# Altium footprint library Footprint.PcbLib: 105 footprints (part 3 of 7)
Each footprint in its own frame and in the unit in brackets; x right, y up, seen from the top. Pads: shape width x height; smd on the part's side, far side on the other; paste and mask are expansions set on the pad; w line width, h text height; cw(c..) or ccw(c..) is an arc to the next point about the centre after c.
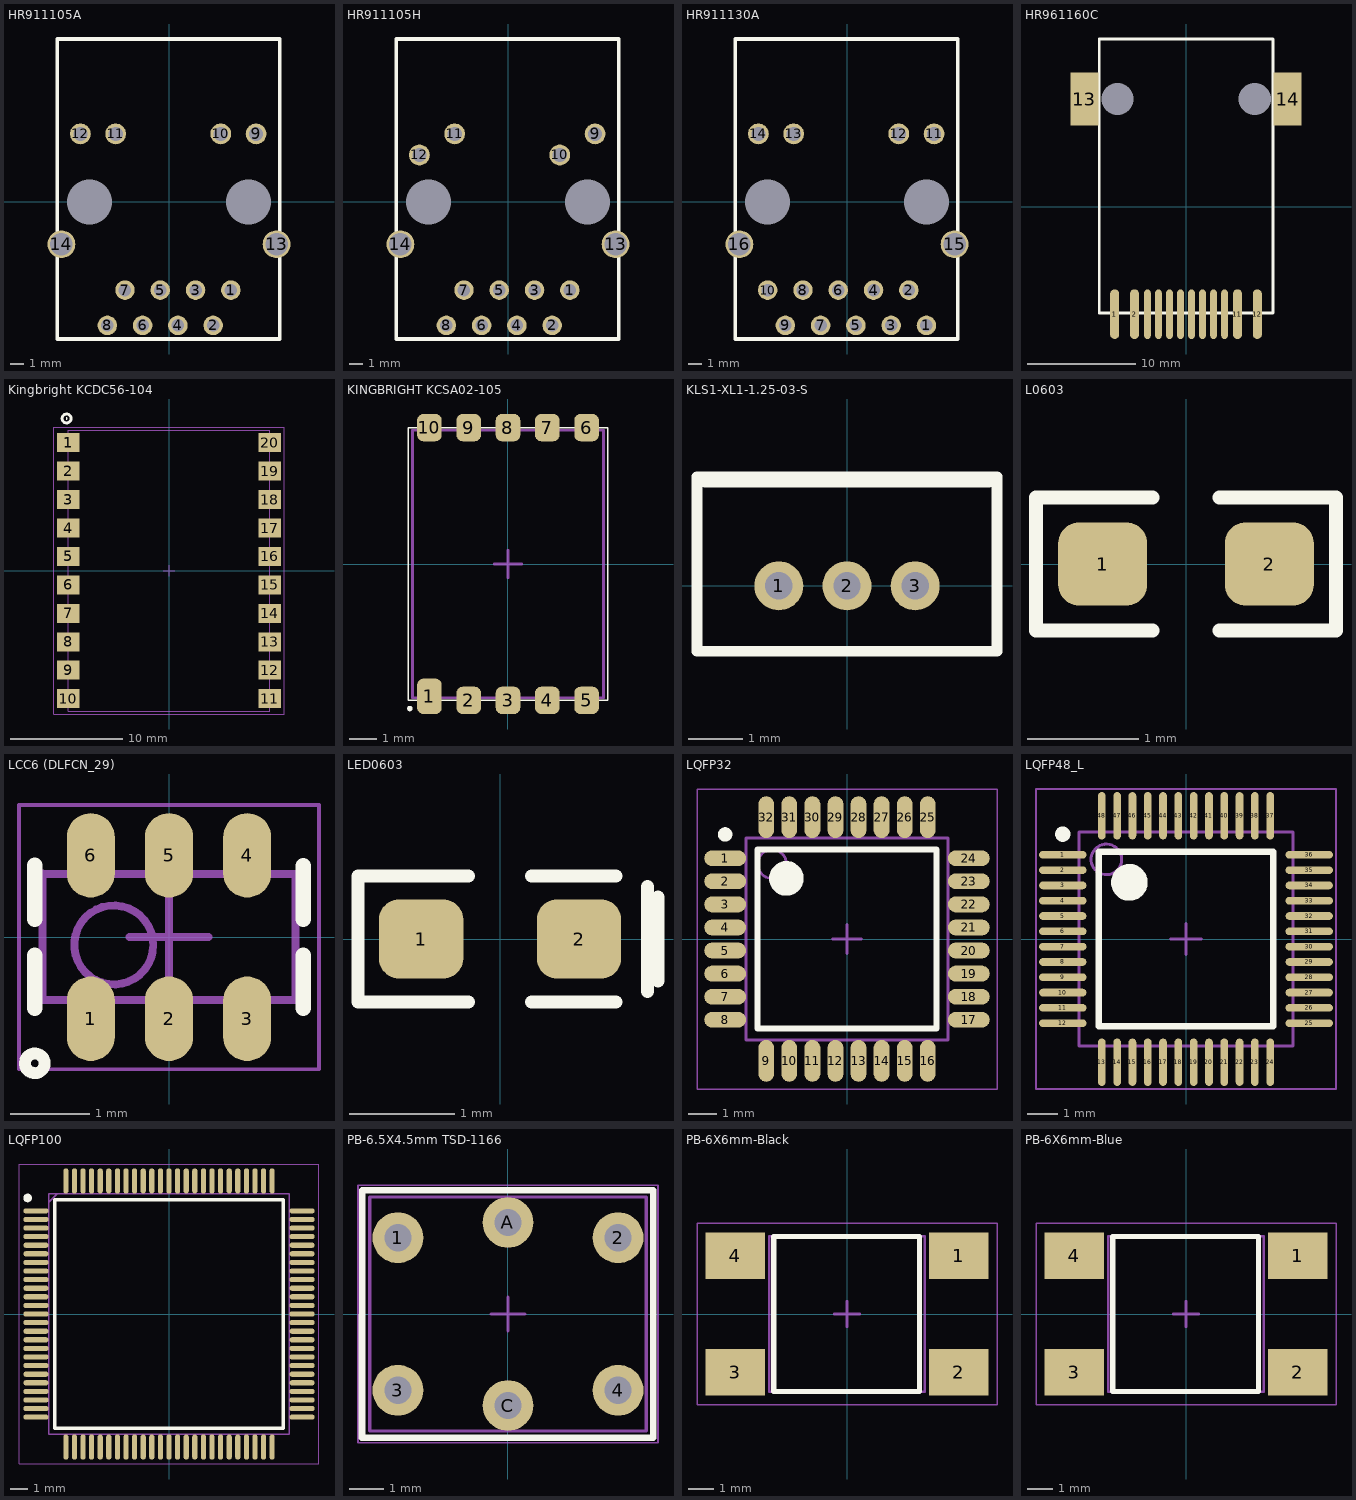
[diagram p2: the footprints below, top view; thin cyan lines are the x and y axes]

## HR911105A [mm]
pads (16):
  round 1.4 hole 0.9: 1(4.45,-6.35) 2(3.18,-8.89) 3(1.91,-6.35) 4(0.64,-8.89) 5(-0.63,-6.35) 6(-1.9,-8.89) 7(-3.17,-6.35) 8(-4.44,-8.89)
  round 1.5 hole 1.02: 9(6.27,4.9) 10(3.73,4.9) 11(-3.84,4.9) 12(-6.38,4.9)
  round 2 hole 1.63: 13(7.745,-3.05) 14(-7.745,-3.05)
  round 0 hole 3.25 unplated: ""(-5.715,0) ""(5.715,0)
Top Overlay:
  lines w0.254: -8.042,-9.87 -8.042,11.73 7.958,11.73 7.958,-9.87 -8.042,-9.87
3D body: height 0, standoff 0, extent -8.042,-9.869 7.957,11.729

## HR911105H [mm]
pads (16):
  round 1.4 hole 0.9: 1(4.45,-6.35) 2(3.18,-8.89) 3(1.91,-6.35) 4(0.64,-8.89) 5(-0.63,-6.35) 6(-1.9,-8.89) 7(-3.17,-6.35) 8(-4.44,-8.89)
  round 1.5 hole 1.02: 9(6.27,4.9) 10(3.73,3.38) 11(-3.84,4.9) 12(-6.38,3.38)
  round 2 hole 1.63: 13(7.745,-3.05) 14(-7.745,-3.05)
  round 0 hole 3.25 unplated: ""(-5.715,0) ""(5.715,0)
Top Overlay:
  lines w0.254: -8.042,-9.87 7.958,-9.87 7.958,11.73 -8.042,11.73 -8.042,-9.87
3D body: height 0, standoff 0, extent -8.042,-9.869 7.957,11.729

## HR911130A [mm]
pads (18):
  round 1.4 hole 0.9: 1(5.72,-8.89) 2(4.45,-6.35) 3(3.18,-8.89) 4(1.91,-6.35) 5(0.64,-8.89) 6(-0.63,-6.35) 7(-1.9,-8.89) 8(-3.17,-6.35) 9(-4.44,-8.89) 10(-5.71,-6.35)
  round 1.5 hole 1.02: 11(6.27,4.9) 12(3.73,4.9) 13(-3.84,4.9) 14(-6.38,4.9)
  round 2 hole 1.63: 15(7.745,-3.05) 16(-7.745,-3.05)
  round 0 hole 3.25 unplated: ""(-5.715,0) ""(5.715,0)
Top Overlay:
  lines w0.254: -8.042,-9.87 7.958,-9.87 7.958,11.73 -8.042,11.73 -8.042,-9.87
3D body: height 0, standoff 0, extent -8.042,-9.869 7.957,11.729

## HR961160C [mm]
pads (16):
  oval 0.84x4.6 all layers, no hole: 1(-6.61,-9.97) 2(-4.77,-9.97) 11(4.77,-9.97) 12(6.61,-9.97)
  oval 0.61x4.6 all layers, no hole: 3(-3.57,-9.97) 4(-2.55,-9.97) 5(-1.53,-9.97) 6(-0.51,-9.97) 7(0.51,-9.97) 8(1.53,-9.97) 9(2.55,-9.97) 10(3.57,-9.97)
  round 0 hole 3 unplated: 11(-6.342,9.97) 12(6.358,9.97)
  rect 2.6x4.9 all layers, no hole: 13(-9.42,9.97) 14(9.42,9.97)
Top Overlay:
  lines w0.254: -8.042,-9.87 8.058,-9.87 8.058,15.53 -8.042,15.53 -8.042,-9.87

## Kingbright KCDC56-104 [mm] "Chip Array, Flat, 20-Leads, Pitch 2,54mm,  Body 25,10x19,00mm,  IPC Medium Density"
height 3.75
pads (20):
  rect 2x1.7 smd: 1(-9,11.43) 2(-9,8.89) 3(-9,6.35) 4(-9,3.81) 5(-9,1.27) 6(-9,-1.27) 7(-9,-3.81) 8(-9,-6.35) 9(-9,-8.89) 10(-9,-11.43) 11(9,-11.43) 12(9,-8.89) 13(9,-6.35) 14(9,-3.81) 15(9,-1.27) 16(9,1.27) 17(9,3.81) 18(9,6.35) 19(9,8.89) 20(9,11.43)
Top Overlay:
  circle w0.1: c-9.144,13.589 r0.05
  circle w0.254: c-9.144,13.589 r0.402
Mechanical 13:
  lines w0.1: -9,-12.55 9,-12.55 9,12.55 -9,12.55 -9,-12.55
Mechanical 15:
  lines w0.05: -10.27,-12.8 10.27,-12.8 10.27,12.8 -10.27,12.8 -10.27,-12.8
  lines w0.1: -0.5,0 0.5,0 ; 0,-0.5 0,0.5
3D body: height 3.75, standoff 0, extent -9.5,-12.55 9.5,12.55

## KINGBRIGHT KCSA02-105 [mm] "Chip Array, Flat, 10-Leads, Pitch 1,44mm,  Body 10,00x6,90mm,  IPC Medium Density"
height 3
pads (10):
  rrect50% 0.9x1.3 smd: 1(-2.88,-4.85)
  rrect50% 0.9x1 smd: 2(-1.44,-5) 3(0,-5) 4(1.44,-5) 5(2.88,-5) 6(2.88,5) 7(1.44,5) 8(0,5) 9(-1.44,5) 10(-2.88,5)
Top Overlay:
  circle w0.1: c-3.6,-5.3 r0.05
  lines w0.05: -3.65,-5 3.65,-5 3.65,5 -3.65,5 -3.65,-5
Mechanical 13:
  lines w0.1: -3.5,-4.9 -3.5,4.9 3.5,4.9 3.5,-4.9 -3.5,-4.9
Mechanical 15:
  lines w0.1: -0.5,0 0.5,0 ; 0,-0.5 0,0.5
3D body: height 3, standoff 0, extent -3.5,-4.9 3.5,4.9

## KLS1-XL1-1.25-03-S [mm]
pads (3):
  round 0.9 hole 0.5: 1(-1.25,0) 2(0,0) 3(1.25,0)
Top Overlay:
  lines w0.2: -2.6,1.9 2.6,1.9 ; -2.75,-1.2 2.75,-1.2 2.75,2 -2.75,2 -2.75,-1.2

## L0603 [mm]
pads (2):
  rrect50% 0.8x0.75 smd: 1(-0.75,0) 2(0.75,0)
Top Overlay:
  lines w0.125: -0.3,-0.6 -1.35,-0.6 ; -0.3,0.6 -1.35,0.6 ; 0.3,-0.6 1.35,-0.6 1.35,0.6 0.3,0.6 ; -1.35,-0.6 -1.35,0.6 ; -1.35,-0.6 -1.35,-0.6 ; -1.35,0.6 -1.35,0.6
3D body "C-0603.STEP": height 0.3, standoff 0, extent -0.8,-0.4 0.8,0.4

## LCC6 (DLFCN_29) [mm] "LCC, 6-Pins, Body 3.20x1.60mmx0.89mm, Pitch 0.99mm, IPC Medium Density"
height 0.89
pads (6):
  oval 0.61x1.07 smd: 1(-0.99,-1.035) 2(0,-1.035) 3(0.99,-1.035) 4(0.99,1.035) 5(0,1.035) 6(-0.99,1.035)
Top Overlay:
  circle w0.15: c-1.7,-1.6 r0.125
  lines w0.2: -1.7,-0.9 -1.7,-0.23 ; -1.7,0.23 -1.7,0.908 ; 1.7,-0.9 1.7,-0.23 ; 1.7,0.23 1.7,0.9
Mechanical 13:
  circle w0.1: c-0.7,-0.1 r0.5
  lines w0.1: -1.608,0.8 1.6,0.8 1.6,-0.8 -1.6,-0.8 -1.6,0.808
Mechanical 15:
  lines w0.05: -1.9,-1.675 -1.9,1.675 1.9,1.675 1.9,-1.675 -1.9,-1.675
  lines w0.1: -0.5,0 0.5,0 ; 0,-0.5 0,0.5
3D body: height 0.89, standoff 0, extent -1.608,-0.8 1.6,0.808

## LED0603 [mm]
pads (2):
  rrect50% 0.8x0.75 smd: 1(-0.75,0) 2(0.75,0)
Top Overlay:
  lines w0.125: -0.3,-0.6 -1.35,-0.6 -1.35,0.6 -0.3,0.6 ; 0.3,-0.6 1.1,-0.6 ; 0.3,0.6 1.1,0.6 ; 1.4,-0.5 1.4,0.5 ; 1.5,-0.4 1.5,0.4 ; 1.1,-0.6 1.1,-0.6 ; 1.1,0.6 1.1,0.6
3D body "C-0603.STEP": height 0.3, standoff 0, extent -0.8,-0.4 0.8,0.4

## LQFP32 [mm] "LQFP, 32-Leads, Body 7,00x7,00mm, Pitch 0,80mm, IPC Medium Density"
height 1.6
pads (32):
  oval 1.45x0.55 smd: 1(-4.225,2.8) 2(-4.225,2) 3(-4.225,1.2) 4(-4.225,0.4) 5(-4.225,-0.4) 6(-4.225,-1.2) 7(-4.225,-2) 8(-4.225,-2.8) 17(4.225,-2.8) 18(4.225,-2) 19(4.225,-1.2) 20(4.225,-0.4) 21(4.225,0.4) 22(4.225,1.2) 23(4.225,2) 24(4.225,2.8)
  oval 0.55x1.45 smd: 9(-2.8,-4.225) 10(-2,-4.225) 11(-1.2,-4.225) 12(-0.4,-4.225) 13(0.4,-4.225) 14(1.2,-4.225) 15(2,-4.225) 16(2.8,-4.225) 25(2.8,4.225) 26(2,4.225) 27(1.2,4.225) 28(0.4,4.225) 29(-0.4,4.225) 30(-1.2,4.225) 31(-2,4.225) 32(-2.8,4.225)
Top Overlay:
  circle w0.25: c-4.225,3.625 r0.125
  circle w0.6: c-2.1,2.1 r0.3
  lines w0.2: -3.1,-3.1 -3.1,3.1 3.1,3.1 3.1,-3.1 -3.1,-3.1
Mechanical 13:
  circle w0.1: c-2.6,2.6 r0.5
  lines w0.1: -3.5,-3.5 -3.5,3.5 3.5,3.5 3.5,-3.5 -3.5,-3.5
Mechanical 15:
  lines w0.05: -5.2,-5.2 -5.2,5.2 5.2,5.2 5.2,-5.2 -5.2,-5.2
  lines w0.1: -0.5,0 0.5,0 ; 0,-0.5 0,0.5
3D body: height 1.6, standoff 0.15, extent -3.5,-3.5 3.5,3.5

## LQFP48_L [mm] "QFP, 48-Leads, Body 7x7mm, Pitch 0.5mm, IPC High Density"
height 1.6
pads (48):
  oval 1.55x0.25 smd: 1(-4.025,2.75) 2(-4.025,2.25) 3(-4.025,1.75) 4(-4.025,1.25) 5(-4.025,0.75) 6(-4.025,0.25) 7(-4.025,-0.25) 8(-4.025,-0.75) 9(-4.025,-1.25) 10(-4.025,-1.75) 11(-4.025,-2.25) 12(-4.025,-2.75) 25(4.025,-2.75) 26(4.025,-2.25) 27(4.025,-1.75) 28(4.025,-1.25) 29(4.025,-0.75) 30(4.025,-0.25) 31(4.025,0.25) 32(4.025,0.75) 33(4.025,1.25) 34(4.025,1.75) 35(4.025,2.25) 36(4.025,2.75)
  oval 0.25x1.55 smd: 13(-2.75,-4.025) 14(-2.25,-4.025) 15(-1.75,-4.025) 16(-1.25,-4.025) 17(-0.75,-4.025) 18(-0.25,-4.025) 19(0.25,-4.025) 20(0.75,-4.025) 21(1.25,-4.025) 22(1.75,-4.025) 23(2.25,-4.025) 24(2.75,-4.025) 37(2.75,4.025) 38(2.25,4.025) 39(1.75,4.025) 40(1.25,4.025) 41(0.75,4.025) 42(0.25,4.025) 43(-0.25,4.025) 44(-0.75,4.025) 45(-1.25,4.025) 46(-1.75,4.025) 47(-2.25,4.025) 48(-2.75,4.025)
Top Overlay:
  circle w0.25: c-4.025,3.425 r0.125
  circle w0.6: c-1.85,1.85 r0.3
  lines w0.2: -2.85,-2.85 -2.85,2.85 2.85,2.85 2.85,-2.85 -2.85,-2.85
Mechanical 13:
  circle w0.1: c-2.6,2.6 r0.5
  lines w0.1: -3.5,-3.5 -3.5,3.5 3.5,3.5 3.5,-3.5 -3.5,-3.5
Mechanical 15:
  lines w0.05: -4.9,-4.9 -4.9,4.9 4.9,4.9 4.9,-4.9 -4.9,-4.9
  lines w0.1: -0.5,0 0.5,0 ; 0,-0.5 0,0.5
3D body: height 1.6, standoff 0.05, extent -3.5,-3.5 3.5,3.5

## LQFP100 [mm]
pads (100):
  oval 1.475x0.3 smd: 1(-7.738,6) 2(-7.738,5.5) 3(-7.738,5) 4(-7.738,4.5) 5(-7.738,4) 6(-7.738,3.5) 7(-7.738,3) 8(-7.738,2.5) 9(-7.738,2) 10(-7.738,1.5) 11(-7.738,1) 12(-7.738,0.5) 13(-7.738,0) 14(-7.738,-0.5) 15(-7.738,-1) 16(-7.738,-1.5) 17(-7.738,-2) 18(-7.738,-2.5) 19(-7.738,-3) 20(-7.738,-3.5) 21(-7.738,-4) 22(-7.738,-4.5) 23(-7.738,-5) 24(-7.738,-5.5) 25(-7.738,-6) 51(7.738,-6) 52(7.738,-5.5) 53(7.738,-5) 54(7.738,-4.5) 55(7.738,-4) 56(7.738,-3.5) 57(7.738,-3) 58(7.738,-2.5) 59(7.738,-2) 60(7.738,-1.5) 61(7.738,-1) 62(7.738,-0.5) 63(7.738,0) 64(7.738,0.5) 65(7.738,1) 66(7.738,1.5) 67(7.738,2) 68(7.738,2.5) 69(7.738,3) 70(7.738,3.5) 71(7.738,4) 72(7.738,4.5) 73(7.738,5) 74(7.738,5.5) 75(7.738,6)
  oval 0.3x1.475 smd: 26(-6,-7.738) 27(-5.5,-7.738) 28(-5,-7.738) 29(-4.5,-7.738) 30(-4,-7.738) 31(-3.5,-7.738) 32(-3,-7.738) 33(-2.5,-7.738) 34(-2,-7.738) 35(-1.5,-7.738) 36(-1,-7.738) 37(-0.5,-7.738) 38(0,-7.738) 39(0.5,-7.738) 40(1,-7.738) 41(1.5,-7.738) 42(2,-7.738) 43(2.5,-7.738) 44(3,-7.738) 45(3.5,-7.738) 46(4,-7.738) 47(4.5,-7.738) 48(5,-7.738) 49(5.5,-7.738) 50(6,-7.738) 76(6,7.738) 77(5.5,7.738) 78(5,7.738) 79(4.5,7.738) 80(4,7.738) 81(3.5,7.738) 82(3,7.738) 83(2.5,7.738) 84(2,7.738) 85(1.5,7.738) 86(1,7.738) 87(0.5,7.738) 88(0,7.738) 89(-0.5,7.738) 90(-1,7.738) 91(-1.5,7.738) 92(-2,7.738) 93(-2.5,7.738) 94(-3,7.738) 95(-3.5,7.738) 96(-4,7.738) 97(-4.5,7.738) 98(-5,7.738) 99(-5.5,7.738) 100(-6,7.738)
Top Overlay:
  circle w0.25: c-8.225,6.75 r0.125
  lines w0.2: -6.65,-6.65 -6.65,6.65 6.65,6.65 6.65,-6.65 -6.65,-6.65
Mechanical 13:
  lines w0.1: -7,6.5 -6.5,7 ; -7,-7 -7,7 7,7 7,-7 -7,-7
Mechanical 15:
  lines w0.05: -8.725,-8.725 -8.725,8.725 8.725,8.725 8.725,-8.725 -8.725,-8.725
3D body "STM32L476VGT6.stp": height 1.6, standoff 0, extent -8,-8 8,8

## PB-6.5X4.5mm TSD-1166 [mm] "Surface Mounting Type Tact Switch, 4-Leads, Body 6x6mm, Height 4.5mm Black"
height 4.5
pads (6):
  round 1.5 hole 0.8: 1(-3.25,2.25) 2(3.25,2.25) 3(-3.25,-2.25) 4(3.25,-2.25) A(0,2.7) C(0,-2.7)
Top Overlay:
  lines w0.2: -4.306,-3.65 -4.3,3.65 4.283,3.65 4.283,-3.65 -4.306,-3.65
Mechanical 13:
  lines w0.1: -4.075,-3.45 -4.075,3.45 4.075,3.45 4.075,-3.45 -4.075,-3.45
Mechanical 15:
  lines w0.05: 4.425,3.8 4.425,-3.8 -4.425,-3.8 -4.425,3.8 4.425,3.8 ; 4.425,3.8 4.425,3.8
  lines w0.1: -0.5,0 0.5,0 ; 0,-0.5 0,0.5
3D body: height 3.9, standoff 2.3, extent 2.434,-3.356 4.025,-1.762
3D body: height 3.9, standoff 2.3, extent -4.006,-3.351 -2.412,-1.759
3D body: height 3.9, standoff 2.3, extent 2.438,1.759 4.031,3.35
3D body: height 3.9, standoff 2.3, extent -4.001,1.763 -2.409,3.356
3D body: height 11.5, standoff 3.5, extent -1.75,-1.75 1.75,1.75
3D body: height 3.5, standoff 0, extent -4.075,-3.45 4.075,3.45

## PB-6X6mm-Black [mm] "Surface Mounting Type Tact Switch, 4-Leads, Body 6x6mm, Height 4.5mm Black"
height 4.5
pads (4):
  rect 2.3x1.8 smd: 1(4.325,2.25) 2(4.325,-2.25) 3(-4.325,-2.25) 4(-4.325,2.25)
Top Overlay:
  lines w0.2: -2.831,-3 2.808,-3 2.808,3 -2.831,3 -2.831,-3
Mechanical 13:
  lines w0.1: -3,-3 -3,3 3,3 3,-3 -3,-3
Mechanical 15:
  lines w0.05: -5.8,-3.5 -5.8,3.5 5.8,3.5 5.8,-3.5 -5.8,-3.5
  lines w0.1: -0.5,0 0.5,0 ; 0,-0.5 0,0.5
3D body: height 3.9, standoff 2.3, extent 1.359,-2.956 2.95,-1.362
3D body: height 3.9, standoff 2.3, extent -2.956,-2.951 -1.362,-1.359
3D body: height 3.9, standoff 2.3, extent 1.363,1.359 2.956,2.95
3D body: height 3.9, standoff 2.3, extent -2.951,1.363 -1.359,2.956
3D body: height 10.5, standoff 3.5, extent -1.736,-1.746 1.75,1.747
3D body: height 3.5, standoff 0, extent -3,-3 3,3

## PB-6X6mm-Blue [mm] "Surface Mounting Type Tact Switch, 4-Leads, Body 6x6mm, Height 4.5mm,Blue"
height 4.5
pads (4):
  rect 2.3x1.8 smd: 1(4.325,2.25) 2(4.325,-2.25) 3(-4.325,-2.25) 4(-4.325,2.25)
Top Overlay:
  lines w0.2: -2.831,-3 -2.831,3 2.808,3 2.808,-3 -2.831,-3
Mechanical 13:
  lines w0.1: -3,-3 3,-3 3,3 -3,3 -3,-3
Mechanical 15:
  lines w0.05: -5.8,-3.5 -5.8,3.5 5.8,3.5 5.8,-3.5 -5.8,-3.5
  lines w0.1: -0.5,0 0.5,0 ; 0,-0.5 0,0.5
3D body: height 3.5, standoff 0, extent -3,-3 3,3
3D body: height 10.5, standoff 3.5, extent -1.736,-1.746 1.75,1.747
3D body: height 3.9, standoff 2.3, extent -2.951,1.363 -1.359,2.956
3D body: height 3.9, standoff 2.3, extent 1.363,1.359 2.956,2.95
3D body: height 3.9, standoff 2.3, extent -2.956,-2.951 -1.362,-1.359
3D body: height 3.9, standoff 2.3, extent 1.359,-2.956 2.95,-1.362